# EAGLE library part SN65HVD230 (library kwoo)
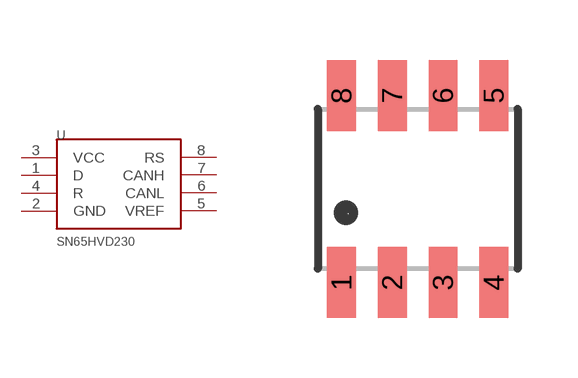
[diagram p44: symbol with the pads of 8-SOIC; footprint 8-SOIC]

Designator prefix U

## SN65HVD230  [8-SOIC]
1  D
2  GND
3  VCC
4  R
5  VREF
6  CANL
7  CANH
8  RS

## Footprint 8-SOIC (pad centres in mm)
smd 0.72 x 1.78: 1 -1.905,-2.34; 2 -0.635,-2.34; 3 0.635,-2.34; 4 1.905,-2.34; 5 1.905,2.34; 6 0.635,2.34; 7 -0.635,2.34; 8 -1.905,2.34